# Altium footprint library ComponentsPCBLib.PcbLib: 16 footprints
Each footprint in its own frame and in the unit in brackets; x right, y up, seen from the top. Pads: shape width x height; smd on the part's side, far side on the other; paste and mask are expansions set on the pad; w line width, h text height; cw(c..) or ccw(c..) is an arc to the next point about the centre after c.
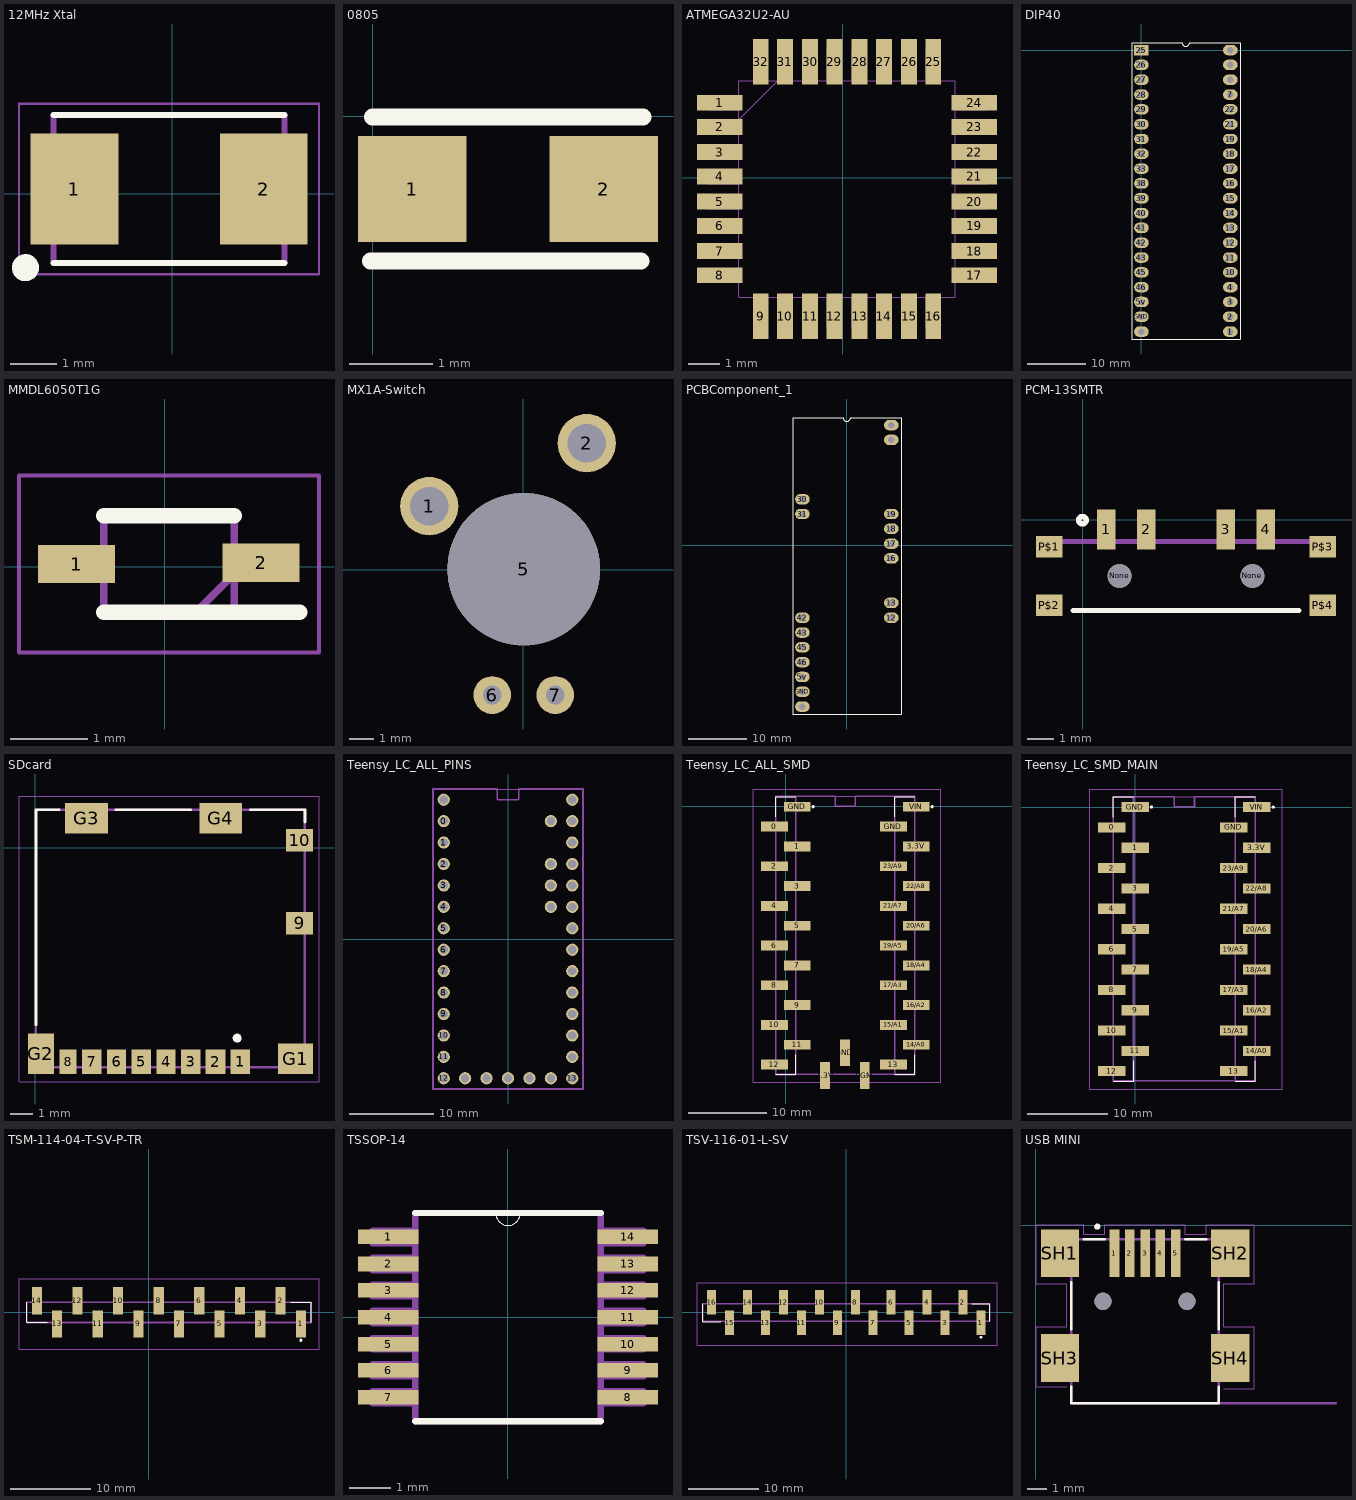
[diagram p0: the footprints below, top view; thin cyan lines are the x and y axes]

## 12MHz Xtal [mm] "ECS-120-18-30-JEM-TR"
pads (2):
  rect 1.9x2.4 smd: 1(-2.115,0.105) 2(1.985,0.105)
Top Overlay:
  circle w0.3: c-3.175,-1.6 r0.141
  lines w0.127: -2.565,-1.495 2.435,-1.495 ; -2.565,1.705 2.435,1.705
Mechanical 4:
  circle w0.3: c-3.175,-1.6 r0.141
  circle w0.3: c-3.175,-1.6 r0.141
  lines w0.127: -2.565,-1.495 2.435,-1.495 ; -2.565,-1.495 -2.565,1.705 ; -2.565,-1.495 2.435,-1.495 ; -2.565,-1.495 -2.565,1.705 ; -2.565,1.705 2.435,1.705 ; -2.565,1.705 2.435,1.705 ; 2.435,-1.495 2.435,1.705 ; 2.435,-1.495 2.435,1.705
Mechanical 16:
  lines w0.05: -3.315,-1.745 3.185,-1.745 3.185,1.955 -3.315,1.955 -3.315,-1.745
3D body "ECS-250-18-30-JEM-TR--3DModel-STEP-40055.STEP": height 1.41, standoff 0.01, extent -2.575,-1.5 2.425,1.7

## 0805 [mm]
pads (2):
  rect 1.3x1.27 smd: 1(0.475,-0.875) 2(2.775,-0.875)
Top Overlay:
  lines w0.2: -0.026,-1.739 3.224,-1.739 ; -0.001,-0.011 3.249,-0.011
3D body "User Library-Res_Vishay_CRCW0805_2012.step": height 0.45, standoff 0, extent 0.625,-1.5 2.625,-0.25

## ATMEGA32U2-AU [mil] "32 pin MCU"
pads (32):
  rect 58x20 smd: 1(-156.29,95.43) 2(-156.29,64.43) 3(-156.29,32.43) 4(-156.29,1.43) 5(-156.29,-30.57) 6(-156.29,-61.57) 7(-156.29,-93.57) 8(-156.29,-124.57) 17(167.71,-124.57) 18(167.71,-93.57) 19(167.71,-61.57) 20(167.71,-30.57) 21(167.71,1.43) 22(167.71,32.43) 23(167.71,64.43) 24(167.71,95.43)
  rect 20x58 smd: 9(-104.29,-176.57) 10(-73.29,-176.57) 11(-41.29,-176.57) 12(-10.29,-176.57) 13(21.71,-176.57) 14(52.71,-176.57) 15(84.71,-176.57) 16(115.71,-176.57) 25(115.71,147.43) 26(84.71,147.43) 27(52.71,147.43) 28(21.71,147.43) 29(-10.29,147.43) 30(-41.29,147.43) 31(-73.29,147.43) 32(-104.29,147.43)
Mechanical 4:
  drawing of 338 lines, arcs and shapes, not listed
3D body "ATMEGA8-16AC--3DModel-STEP-56544.STEP": height 41.84, standoff -5.4, extent -171.26,-192.91 183.07,161.42
3D body: height 17.72, standoff -596.46, extent -0.98,35.43 -0.98,35.43

## DIP40 [mm]
pads (40):
  oval 2.5x1.8 / inner oval 2.5x1.2 / far side oval 2.5x1.8 hole 1.1: 1(15.24,-48.26) 2(15.24,-45.72) 3(15.24,-43.18) 3v3_1(0,-48.26) 3v3_2(15.24,-5.08) 4(15.24,-40.64) 5v(0,-43.18) 7(15.24,-7.62) 10(15.24,-38.1) 11(15.24,-35.56) 12(15.24,-33.02) 13(15.24,-30.48) 14(15.24,-27.94) 15(15.24,-25.4) 16(15.24,-22.86) 17(15.24,-20.32) 18(15.24,-17.78) 19(15.24,-15.24) 21(15.24,-12.7) 22(15.24,-10.16) 26(0,-2.54) 27(0,-5.08) 28(0,-7.62) 29(0,-10.16) 30(0,-12.7) 31(0,-15.24) 32(0,-17.78) 33(0,-20.32) 38(0,-22.86) 39(0,-25.4) 40(0,-27.94) 41(0,-30.48) 42(0,-33.02) 43(0,-35.56) 45(0,-38.1) 46(0,-40.64) GND(0,-45.72) GND2(15.24,0) GND3(15.24,-2.54)
  rect 2.5x1.8 / inner rect 2.5x1.2 / far side rect 2.5x1.8 hole 1.1: 25(0,0)
Top Overlay:
  lines w0.2: -1.625,-49.53 -1.625,1.27 6.985,1.27 ccw(c7.62,1.27) 8.255,1.27 16.9,1.27 16.9,-49.53 -1.625,-49.53

## MMDL6050T1G [mm]
pads (2):
  rect 1x0.5 smd: 1(-1.147,0.036) 2(1.25,0.05)
Top Overlay:
  lines w0.2: -0.797,-0.589 1.753,-0.589 ; -0.797,0.661 0.903,0.661
Mechanical 15:
  lines w0.1: 0.403,-0.589 0.903,-0.089 ; -0.797,-0.589 -0.797,0.661 0.903,0.661 0.903,-0.589 -0.797,-0.589
Mechanical 20:
  lines w0.05: -1.897,-1.114 -1.897,1.186 2.003,1.186 2.003,-1.114 -1.897,-1.114

## MX1A-Switch [mm]
pads (5):
  round 2.35 hole 1.55: 1(-3.799,2.57) 2(2.551,5.11)
  round 6.15 hole 6.15: 5(0.011,0.03)
  round 1.524 hole 0.762: 6(-1.259,-5.05) 7(1.281,-5.05)
3D body "MX Series-Cherry Key.STEP": height 15.21, standoff -3.69, extent -7.725,-7.85 7.875,7.75

## PCBComponent_1 [mm]
pads (17):
  oval 2.5x1.8 / inner oval 2.5x1.2 / far side oval 2.5x1.8 hole 1.1: 3v3_1(-7.6,-27.66) 5v(-7.6,-22.58) 12(7.64,-12.42) 13(7.64,-9.88) 16(7.64,-2.26) 17(7.64,0.28) 18(7.64,2.82) 19(7.64,5.36) 30(-7.6,7.9) 31(-7.6,5.36) 42(-7.6,-12.42) 43(-7.6,-14.96) 45(-7.6,-17.5) 46(-7.6,-20.04) GND(-7.6,-25.12) GND2(7.64,20.6) GND3(7.64,18.06)
Top Overlay:
  lines w0.2: -9.225,-28.93 9.3,-28.93 9.3,21.87 0.655,21.87 cw(c0.02,21.87) -0.615,21.87 -9.225,21.87 -9.225,-28.93

## PCM-13SMTR [mm] "SP3T"
pads (10):
  rect 0.7x1.5 smd: 1(0.898,-0.36) 2(2.398,-0.36) 3(5.398,-0.36) 4(6.898,-0.36)
  round 0.9 hole 0.9 unplated: None(1.398,-2.11) None(6.398,-2.11)
  rect 1x0.8 smd: P$1(-1.252,-1.01) P$2(-1.252,-3.21) P$3(9.048,-1.01) P$4(9.048,-3.21)
Top Overlay:
  circle w0.2: c-0.002,-0.01 r0.141
  lines w0.2: -0.352,-3.41 2.398,-3.41 5.398,-3.41 8.148,-3.41
Mechanical 4:
  lines w0.2: -0.952,-0.81 8.748,-0.81 -0.952,-0.81
3D body: height 1.4, standoff 0, extent -0.35,-3.4 8.175,-0.8

## SDcard [mm]
pads (14):
  rect 0.85x1.1 smd: 1(9.106,-9.499) 3(6.906,-9.499) 4(5.806,-9.499) 5(4.706,-9.499) 6(3.606,-9.499) 7(2.506,-9.499)
  rect 0.875x1.1 smd: 2(8.006,-9.499)
  rect 0.75x1.1 smd: 8(1.456,-9.499)
  rect 1.2x1 smd: 9(11.741,-3.349) 10(11.741,0.351)
  rect 1.55x1.35 smd: G1(11.566,-9.374)
  rect 1.17x1.8 smd: G2(0.246,-9.149)
  rect 1.9x1.35 smd: G3(2.271,1.326) G4(8.241,1.326)
Top Overlay:
  circle w0.2: c8.969,-8.45 r0.1
  lines w0.127: 0.026,-7.855 0.026,1.701 1.048,1.701 ; 3.588,1.701 6.89,1.701 ; 9.557,1.701 11.976,1.701 11.976,1.162
Mechanical 4:
  lines w0.1: 0.026,-9.749 0.026,1.701 ; 0.026,-9.749 11.976,-9.749 ; 0.026,-9.749 0.026,1.701 ; 0.026,-9.749 11.976,-9.749 ; 0.026,1.701 11.976,1.701 ; 0.026,1.701 11.976,1.701 ; 11.976,-9.749 11.976,1.701 ; 11.976,-9.749 11.976,1.701
Mechanical 16:
  lines w0.05: -0.73,-10.395 -0.73,2.305 12.605,2.305 12.605,-10.395 -0.73,-10.395
3D body "473521001_microSD.stp": height 1.86, standoff -0.02, extent -1.45,-13.175 12.65,2.025

## Teensy_LC_ALL_PINS [mil]
pads (37):
  round 57 / inner round 60 / far side round 57 hole 38: 0(-300,550) 1(-300,450) 2(-300,350) 3(-300,250) 3.3V(300,450) 3.3V1(-100,-650) 4(-300,150) 5(-300,50) 6(-300,-50) 7(-300,-150) 8(-300,-250) 9(-300,-350) 10(-300,-450) 11(-300,-550) 12(-300,-650) 13(300,-650) 14/A0(300,-550) 15/A1(300,-450) 16/A2(300,-350) 17/A3(300,-250) 18/A4(300,-150) 19/A5(300,-50) 20/A6(300,50) 21/A7(300,150) 22/A8(300,250) 23/A9(300,350) A10(200,250) A11(200,150) AGND(300,550) AREF(200,350) GND(-300,650) GND1(0,-650) PGM(100,-650) RESET/DAC(200,-650) VBAT(-200,-650) VIN(300,650) VUSB(200,550)
Mechanical 3:
  lines w5: -350,-700 350,-700 350,700 -350,700 -350,-700
Mechanical 7:
  lines w8: -350,-700 350,-700 350,700 50,700 50,650 -50,650 -50,700 -350,700 -350,-700

## Teensy_LC_ALL_SMD [mm]
pads (31):
  rect 3.43x1.27 smd: 0(-1.46,-2.59) 1(1.46,-5.13) 2(-1.46,-7.67) 3(1.46,-10.21) 3.3V(16.7,-5.13) 4(-1.46,-12.75) 5(1.46,-15.29) 6(-1.46,-17.83) 7(1.46,-20.37) 8(-1.46,-22.91) 9(1.46,-25.45) 10(-1.46,-27.99) 11(1.46,-30.53) 12(-1.46,-33.07) 13(13.78,-33.07) 14/A0(16.7,-30.53) 15/A1(13.78,-27.99) 16/A2(16.7,-25.45) 17/A3(13.78,-22.91) 18/A4(16.7,-20.37) 19/A5(13.78,-17.83) 20/A6(16.7,-15.29) 21/A7(13.78,-12.75) 22/A8(16.7,-10.21) 23/A9(13.78,-7.67) GND(1.46,-0.05) GND(13.78,-2.59) VIN(16.7,-0.05)
  rect 1.27x3.43 smd: 3.3V(5.03,-34.48) GND(7.57,-31.56) PGM(10.11,-34.48)
Top Overlay:
  lines w0.1: -1.269,-34.335 1.27,-34.335 1.27,-31.795 ; -1.269,-1.32 -1.269,1.22 1.27,1.22 ; 13.971,-34.335 16.51,-34.335 16.51,-31.795 ; 13.971,-1.32 13.971,1.22 16.51,1.22
  lines w0.2: 3.5,0.049 cw(c3.5,-0.05) 3.5,-0.15 cw(c3.5,-0.049) 3.5,0.051 ; 18.74,0.049 cw(c18.74,-0.05) 18.74,-0.15 cw(c18.74,-0.049) 18.74,0.051
Mechanical 3:
  lines w0.127: -1.27,-34.29 16.51,-34.29 16.51,1.27 -1.27,1.27 -1.27,-34.29
Mechanical 7:
  lines w0.203: -1.27,-34.29 16.51,-34.29 16.51,1.27 8.89,1.27 8.89,0 6.35,0 6.35,1.27 -1.27,1.27 -1.27,-34.29
Mechanical 13:
  lines w0.2: -1.269,-34.335 1.27,-34.335 1.27,1.22 -1.269,1.22 -1.269,-34.335 ; 13.971,-34.335 16.51,-34.335 16.51,1.22 13.971,1.22 13.971,-34.335
Mechanical 15:
  lines w0.1: 4.475,-35.3 19.841,-35.3 19.841,2.22 4.475,2.22 ; 4.601,-35.3 -4.175,-35.3 -4.175,2.22 4.601,2.22
3D body "TSM-114-04-T-SV-P-TR.stp": height 10.68, standoff 0.01, extent -2.667,-34.335 2.617,1.225
3D body: height 2.64, standoff -2.64, extent -6.812,-29.57 -6.812,-29.57
3D body "TSM-114-04-T-SV-P-TR.stp": height 10.68, standoff 0.01, extent 12.573,-34.335 17.857,1.225
3D body: height 2.64, standoff -2.64, extent 8.428,-29.57 8.428,-29.57

## Teensy_LC_SMD_MAIN [mm]
pads (28):
  rect 3.43x1.27 smd: 0(-2.92,-2.54) 1(0,-5.08) 2(-2.92,-7.62) 3(0,-10.16) 3.3V(15.24,-5.08) 4(-2.92,-12.7) 5(0,-15.24) 6(-2.92,-17.78) 7(0,-20.32) 8(-2.92,-22.86) 9(0,-25.4) 10(-2.92,-27.94) 11(0,-30.48) 12(-2.92,-33.02) 13(12.32,-33.02) 14/A0(15.24,-30.48) 15/A1(12.32,-27.94) 16/A2(15.24,-25.4) 17/A3(12.32,-22.86) 18/A4(15.24,-20.32) 19/A5(12.32,-17.78) 20/A6(15.24,-15.24) 21/A7(12.32,-12.7) 22/A8(15.24,-10.16) 23/A9(12.32,-7.62) GND(0,0) GND(12.32,-2.54) VIN(15.24,0)
Top Overlay:
  lines w0.1: -2.729,-34.285 -0.19,-34.285 -0.19,-31.745 ; -2.729,-1.27 -2.729,1.27 -0.19,1.27 ; 12.511,-34.285 15.05,-34.285 15.05,-31.745 ; 12.511,-1.27 12.511,1.27 15.05,1.27
  lines w0.2: 2.04,0.099 cw(c2.04,-0.001) 2.04,-0.1 cw(c2.04,0.001) 2.04,0.101 ; 17.28,0.099 cw(c17.28,-0.001) 17.28,-0.1 cw(c17.28,0.001) 17.28,0.101
Mechanical 3:
  lines w0.127: -2.73,-34.24 -2.73,1.32 15.05,1.32 15.05,-34.24 -2.73,-34.24
Mechanical 7:
  lines w0.203: -2.73,-34.24 -2.73,1.32 4.89,1.32 4.89,0.05 7.43,0.05 7.43,1.32 15.05,1.32 15.05,-34.24 -2.73,-34.24
Mechanical 13:
  lines w0.2: -2.729,-34.285 -2.729,1.27 -0.19,1.27 -0.19,-34.285 -2.729,-34.285 ; 12.511,-34.285 12.511,1.27 15.05,1.27 15.05,-34.285 12.511,-34.285
Mechanical 15:
  lines w0.1: 3.015,-35.25 18.381,-35.25 18.381,2.27 3.015,2.27 ; 3.141,-35.25 -5.635,-35.25 -5.635,2.27 3.141,2.27
3D body "TSM-114-04-T-SV-P-TR.stp": height 10.68, standoff 0.01, extent 11.113,-34.285 16.397,1.275
3D body: height 2.64, standoff -2.64, extent -8.272,-29.52 -8.272,-29.52
3D body "TSM-114-04-T-SV-P-TR.stp": height 10.68, standoff 0.01, extent -4.127,-34.285 1.157,1.275

## TSM-114-04-T-SV-P-TR [mm] "14 pin, 2.54mm SMD header"
pads (14):
  rect 1.27x3.43 smd: 1(19.05,-1.46) 2(16.51,1.46) 3(13.97,-1.46) 4(11.43,1.46) 5(8.89,-1.46) 6(6.35,1.46) 7(3.81,-1.46) 8(1.27,1.46) 9(-1.27,-1.46) 10(-3.81,1.46) 11(-6.35,-1.46) 12(-8.89,1.46) 13(-11.43,-1.46) 14(-13.97,1.46)
Top Overlay:
  lines w0.1: -15.235,1.269 -15.235,-1.27 -12.695,-1.27 ; 17.78,1.269 20.32,1.269 20.32,-1.27
  lines w0.2: 19.149,-3.5 cw(c19.05,-3.5) 18.95,-3.5 cw(c19.051,-3.5) 19.151,-3.5
Mechanical 13:
  lines w0.2: -15.235,-1.27 -15.235,1.269 20.32,1.269 20.32,-1.27 -15.235,-1.27
Mechanical 15:
  lines w0.1: -16.2,-4.601 -16.2,4.175 21.32,4.175 21.32,-4.601 -16.2,-4.601
3D body "TSM-114-04-T-SV-P-TR.stp": height 10.68, standoff 0.01, extent -15.235,-2.617 20.325,2.667
3D body: height 2.64, standoff -2.64, extent -10.47,6.812 -10.47,6.812

## TSSOP-14 [mil] "for SN74AHC14PW"
pads (14):
  rect 58x14 smd: 1(-115,77) 2(-115,51) 3(-115,26) 4(-115,0) 5(-115,-26) 6(-115,-51) 7(-115,-77) 8(115,-77) 9(115,-51) 10(115,-26) 11(115,0) 12(115,26) 13(115,51) 14(115,77)
Top Overlay:
  lines w0: -12,100 ccw(c0,100) 12,100
  lines w6: -89,-100 89,-100 ; -89,100 -12,100 12,100 89,100
Mechanical 4:
  lines w0: -12,100 ccw(c0,100) 12,100 cw(c0,100) -12,100
  lines w6: -130,-83 -89,-83 ; -130,-83 -130,-71 ; -130,-83 -89,-83 ; -130,-83 -130,-71 ; -130,-71 -89,-71 ; -130,-71 -89,-71 ; -130,-57 -89,-57 ; -130,-57 -130,-45 ; -130,-57 -89,-57 ; -130,-57 -130,-45 ; -130,-45 -89,-45 ; -130,-45 -89,-45 ; -130,-31 -89,-31 ; -130,-31 -130,-20 ; -130,-31 -89,-31 ; -130,-31 -130,-20 ; -130,-20 -89,-20 ; -130,-20 -89,-20 ; -130,-6 -89,-6 ; -130,-6 -130,6 ; -130,-6 -89,-6 ; -130,-6 -130,6 ; -130,6 -89,6 ; -130,6 -89,6 ; -130,20 -89,20 ; -130,20 -130,31 ; -130,20 -89,20 ; -130,20 -130,31 ; -130,31 -89,31 ; -130,31 -89,31 ; -130,45 -89,45 ; -130,45 -130,57 ; -130,45 -89,45 ; -130,45 -130,57 ; -130,57 -89,57 ; -130,57 -89,57 ; -130,71 -89,71 ; -130,71 -130,83 ; -130,71 -89,71 ; -130,71 -130,83 ; -130,83 -89,83 ; -130,83 -89,83 ; -89,-100 -89,100 ; -89,-100 89,-100 ; -89,-100 -89,100 ; -89,-100 89,-100 ; -89,-83 -89,-71 ; -89,-83 -89,-71 ; -89,-57 -89,-45 ; -89,-57 -89,-45 ; -89,-31 -89,-20 ; -89,-31 -89,-20 ; -89,-6 -89,6 ; -89,-6 -89,6 ; -89,20 -89,31 ; -89,20 -89,31 ; -89,45 -89,57 ; -89,45 -89,57 ; -89,71 -89,83 ; -89,71 -89,83 ; -89,100 -12,100 ; -89,100 -12,100 ; -12,100 12,100 ; -12,100 12,100 ; 12,100 89,100 ; 12,100 89,100 ; 89,-100 89,100 ; 89,-100 89,100 ; 89,-83 130,-83 ; 89,-83 89,-71 ; 89,-83 130,-83 ; 89,-83 89,-71 ; 89,-71 130,-71 ; 89,-71 130,-71 ; 89,-57 130,-57 ; 89,-57 89,-45 ; 89,-57 130,-57 ; 89,-57 89,-45 ; 89,-45 130,-45 ; 89,-45 130,-45 ; 89,-31 130,-31 ; 89,-31 89,-20 ; 89,-31 130,-31 ; 89,-31 89,-20 ; 89,-20 130,-20 ; 89,-20 130,-20 ; 89,-6 130,-6 ; 89,-6 89,6 ; 89,-6 130,-6 ; 89,-6 89,6 ; 89,6 130,6 ; 89,6 130,6 ; 89,20 130,20 ; 89,20 89,31 ; 89,20 130,20 ; 89,20 89,31 ; 89,31 130,31 ; 89,31 130,31 ; 89,45 130,45 ; 89,45 89,57 ; 89,45 130,45 ; 89,45 89,57 ; 89,57 130,57 ; 89,57 130,57 ; 89,71 130,71 ; 89,71 89,83 ; 89,71 130,71 ; 89,71 89,83 ; 89,83 130,83 ; 89,83 130,83 ; 130,-83 130,-71 ; 130,-83 130,-71 ; 130,-57 130,-45 ; 130,-57 130,-45 ; 130,-31 130,-20 ; 130,-31 130,-20 ; 130,-6 130,6 ; 130,-6 130,6 ; 130,20 130,31 ; 130,20 130,31 ; 130,45 130,57 ; 130,45 130,57 ; 130,71 130,83 ; 130,71 130,83
3D body "tssop_14.step": height 48.5, standoff 0.5, extent -124.53,-98.51 127.54,98.34
3D body: height 100.79, standoff -100.79, extent 245,115 245,115

## TSV-116-01-L-SV [mm] "2.54mm SMD 14 position footprint"
pads (16):
  rect 1.27x3.43 smd: 1(19.05,-1.46) 2(16.51,1.46) 3(13.97,-1.46) 4(11.43,1.46) 5(8.89,-1.46) 6(6.35,1.46) 7(3.81,-1.46) 8(1.27,1.46) 9(-1.27,-1.46) 10(-3.81,1.46) 11(-6.35,-1.46) 12(-8.89,1.46) 13(-11.43,-1.46) 14(-13.97,1.46) 15(-16.51,-1.46) 16(-19.05,1.46)
Top Overlay:
  lines w0.1: -20.285,1.262 -20.285,-1.277 -17.745,-1.277 ; 17.78,1.269 20.32,1.269 20.32,-1.27
  lines w0.2: 19.149,-3.5 cw(c19.049,-3.5) 18.95,-3.5 cw(c19.051,-3.5) 19.151,-3.5
Mechanical 13:
  lines w0.2: -20.285,-1.277 -20.285,1.262 ; -20.285,-1.27 20.32,-1.27 20.32,1.269 -20.285,1.269
Mechanical 15:
  lines w0.1: -21.12,-4.601 21.32,-4.601 21.32,4.175 -21.12,4.175 -21.12,-4.601
3D body "TSM-116-01-L-SV.stp": height 9.66, standoff 0.01, extent -20.32,-2.642 20.32,2.641
3D body: height 2.64, standoff -2.64, extent -10.47,6.812 -10.47,6.812

## USB MINI [mm] "UJ2-MBH-1-SMT"
pads (11):
  rect 0.5x2.5 smd: 1(4.129,-1.484) 2(4.929,-1.484) 3(5.729,-1.484) 4(6.529,-1.484) 5(7.329,-1.484)
  round 0.9 hole 0.9 unplated: None(3.529,-3.994) None(7.929,-3.994)
  rect 2x2.5 smd: SH1(1.269,-1.484) SH2(10.189,-1.484) SH3(1.269,-6.964) SH4(10.189,-6.964)
Top Overlay:
  circle w0.16: c3.229,-0.084 r0.08
  lines w0.127: 1.869,-8.464 1.869,-9.325 9.589,-9.325 9.589,-8.464 ; 1.869,-5.464 1.869,-2.984 ; 2.519,-0.734 3.629,-0.734 ; 7.829,-0.734 8.939,-0.734 ; 9.589,-5.464 9.589,-2.984
Mechanical 4:
  circle w0.16: c4.129,-1.334 r0.08
  circle w0.16: c4.129,-1.334 r0.08
  lines w0.127: 1.869,-9.334 1.869,-0.734 ; 1.869,-9.334 9.589,-9.334 ; 1.869,-9.334 1.869,-0.734 ; 1.869,-9.334 9.589,-9.334 ; 1.869,-0.734 9.589,-0.734 ; 1.869,-0.734 9.589,-0.734 ; 9.589,-9.334 15.729,-9.334 9.589,-9.334 ; 9.589,-9.334 9.589,-0.734 ; 9.589,-9.334 9.589,-0.734
Mechanical 16:
  lines w0.05: 1.619,-8.464 0.019,-8.464 0.019,-5.334 1.619,-5.334 1.619,-3.084 0.019,-3.084 0.019,0.016 2.519,0.016 2.519,-0.484 3.629,-0.484 3.629,0.016 7.829,0.016 7.829,-0.484 8.939,-0.484 8.939,0.016 11.439,0.016 11.439,-3.084 9.839,-3.084 9.839,-5.334 11.439,-5.334 11.439,-8.584 9.839,-8.584
3D body "USB_Mini_B_SMD_buchse.STEP": height 3.96, standoff 0, extent 0.7,-9.325 10.7,-0.425